# EAGLE library part A5970D (library TEWSBPPTLibrary)
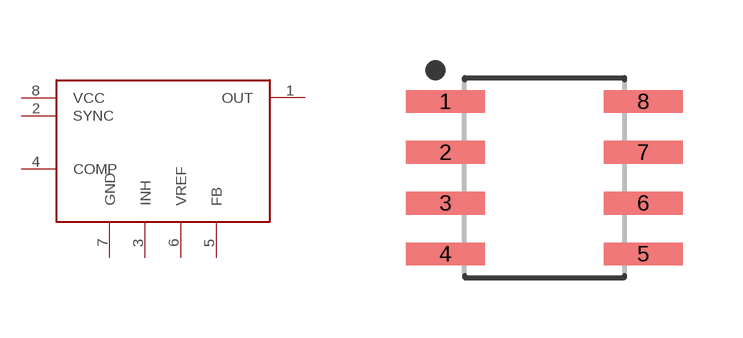
[diagram p4: symbol with the pads of SOIC127P600X175-8; footprint SOIC127P600X175-8]

Designator prefix -

## A5970D  [SOIC127P600X175-8]
1  OUT
2  SYNC
3  INH
4  COMP
5  FB
6  VREF
7  GND
8  VCC

## Footprint SOIC127P600X175-8 (pad centres in mm)
8-SOIC, 1.27 mm pitch, 6.00 mm span, 4.90 X 3.90 X 1.75 mm body 8-pin SOIC package with 1.27 mm pitch, 6.00 mm span with body size 4.90 X 3.90 X 1.75 mm
smd 1.968 x 0.569: 1 -2.473,1.905; 2 -2.473,0.635; 3 -2.473,-0.635; 4 -2.473,-1.905; 5 2.473,-1.905; 6 2.473,-0.635; 7 2.473,0.635; 8 2.473,1.905